# Altium footprint library sensors.PcbLib: 9 footprints
Each footprint in its own frame and in the unit in brackets; x right, y up, seen from the top. Pads: shape width x height; smd on the part's side, far side on the other; paste and mask are expansions set on the pad; w line width, h text height; cw(c..) or ccw(c..) is an arc to the next point about the centre after c.
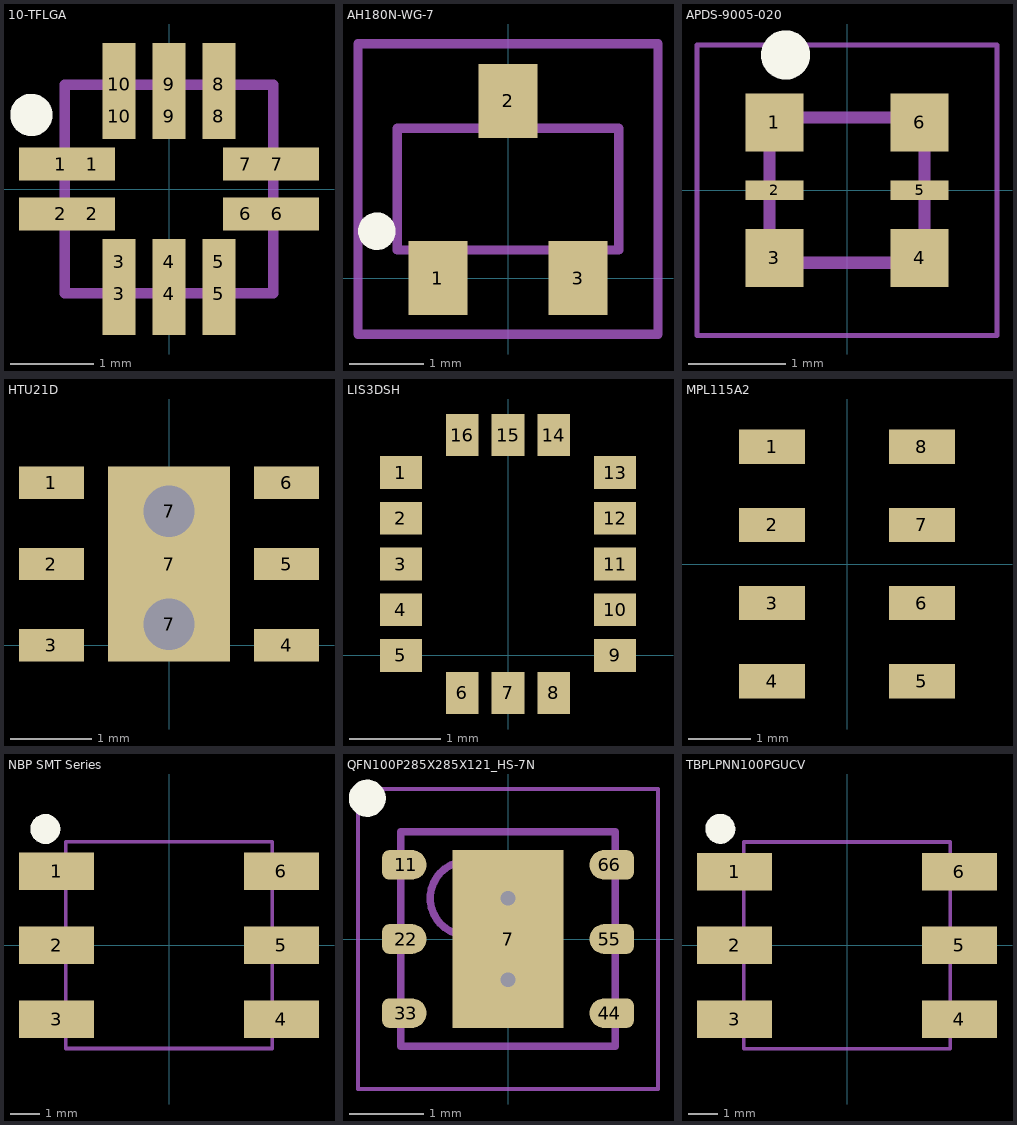
[diagram p0: the footprints below, top view; thin cyan lines are the x and y axes]

## 10-TFLGA [mm] "10 Pin Thin Fine Pitch Land Grid Array"
height 1
pads (20):
  rect 1x0.4 smd: 1(-1.3,0.3) 2(-1.3,-0.3) 6(1.3,-0.3) 7(1.3,0.3)
  rect 0.55x0.4 smd: 1(-0.92,0.3) 2(-0.92,-0.3) 6(0.92,-0.3) 7(0.92,0.3)
  rect 0.4x1 smd: 3(-0.6,-1.255) 4(0,-1.255) 5(0.6,-1.255) 8(0.6,1.255) 9(0,1.255) 10(-0.6,1.255)
  rect 0.4x0.55 smd: 3(-0.6,-0.875) 4(0,-0.875) 5(0.6,-0.875) 8(0.6,0.875) 9(0,0.875) 10(-0.6,0.875)
Top Overlay:
  circle w0.254: c-1.651,0.889 r0.127
Mechanical 1:
  lines w0.127: -1.25,-1.25 1.25,-1.25 1.25,1.25 -1.25,1.25 -1.25,-1.25

## AH180N-WG-7 [mm] "Hall Effect Sensor"
height 1.45
pads (3):
  rect 0.8x1 smd: 1(-0.95,0) 2(0,2.4) 3(0.95,0)
Top Overlay:
  circle w0.254: c-1.778,0.635 r0.127
Mechanical 1:
  lines w0.127: -1.5,0.381 -1.5,2.032 1.5,2.032 1.5,0.381 -1.5,0.381
Mechanical 15:
  lines w0.127: -2.032,-0.762 -2.032,3.175 2.032,3.175 2.032,-0.762 -2.032,-0.762
3D body: height 1.45, standoff 0, extent -1.5,0.381 1.5,2.032

## APDS-9005-020 [mm] "6 Pin Ambient Light Sensor"
height 0.55
pads (6):
  rect 0.6x0.6 smd: 1(-0.75,0.7) 3(-0.75,-0.7) 4(0.75,-0.7) 6(0.75,0.7)
  rect 0.6x0.2 smd: 2(-0.75,0) 5(0.75,0)
Top Overlay:
  circle w0.254: c-0.635,1.397 r0.127
Mechanical 1:
  lines w0.127: -0.8,-0.75 -0.8,0.75 0.8,0.75 0.8,-0.75 -0.8,-0.75
Mechanical 15:
  lines w0.051: -1.55,-1.5 1.55,-1.5 1.55,1.5 -1.55,1.5 -1.55,-1.5
3D body: height 0.55, standoff 0.18, extent -0.381,-0.635 0.381,0.254
3D body: height 0.18, standoff 0, extent -0.8,-0.75 0.8,0.75

## HTU21D [mm] "6 Pin DFN"
height 1.13
pads (9):
  rect 0.8x0.4 smd: 1(-1.45,2) 2(-1.45,1) 3(-1.45,0) 4(1.45,0) 5(1.45,1) 6(1.45,2)
  round 0.889 hole 0.635: 7(0,0.254) 7(0,1.651)
  rect 1.5x2.4 smd: 7(0,1)

## LIS3DSH [mm] "LGA-16 (3x3x1)"
height 1
pads (16):
  rect 0.46x0.36 smd: 1(-1.17,2) 2(-1.17,1.5) 3(-1.17,1) 4(-1.17,0.5) 5(-1.17,0) 9(1.17,0) 10(1.17,0.5) 11(1.17,1) 12(1.17,1.5) 13(1.17,2)
  rect 0.36x0.46 smd: 6(-0.5,-0.41) 7(0,-0.41) 8(0.5,-0.41) 14(0.5,2.41) 15(0,2.41) 16(-0.5,2.41)

## MPL115A2 [mm] "8-TLGA"
height 1.2
pads (8):
  rect 1.05x0.55 smd: 1(-1.2,1.875) 2(-1.2,0.625) 3(-1.2,-0.625) 4(-1.2,-1.875) 5(1.2,-1.875) 6(1.2,-0.625) 7(1.2,0.625) 8(1.2,1.875)

## NBP SMT Series [mm] "Pressure Sensor"
height 10.94
pads (6):
  rect 2.54x1.27 smd: 1(-3.81,2.5) 2(-3.81,0) 3(-3.81,-2.5) 4(3.81,-2.5) 5(3.81,0) 6(3.81,2.5)
Top Overlay:
  circle w0.508: c-4.191,3.937 r0.254
Mechanical 1:
  lines w0.127: -3.5,-3.5 -3.5,3.5 3.5,3.5 3.5,-3.5 -3.5,-3.5
3D body: height 1.02, standoff 0, extent -3.5,-3.5 3.5,3.5
3D body: height 3.84, standoff 1.02, extent -3.224,-3.244 3.25,3.244
3D body: height 10.94, standoff 3.84, extent -1.359,-1.367 1.37,1.367

## QFN100P285X285X121_HS-7N [mm] "QFN, 6-Leads, Body 2.85x2.85mm, Pitch 1.00mm, Thermal Pad 1.50x2.40mm, IPC Medium Density"
height 1.21
pads (13):
  rrect50% 0.5x0.4 smd: 1(-1.45,1) 2(-1.45,0) 3(-1.45,-1) 4(1.45,-1) 5(1.45,0) 6(1.45,1)
  round 0.4 smd: 1(-1.3,1) 2(-1.3,0) 3(-1.3,-1) 4(1.3,-1) 5(1.3,0) 6(1.3,1)
  rect 1.5x2.4 smd: 7(0,0)
via 0,0.55 diameter 0.5 hole 0.2
via 0,-0.55 diameter 0.5 hole 0.2
Top Overlay:
  circle w0.25: c-1.9,1.9 r0.125
Mechanical 13:
  circle w0.1: c-0.55,0.55 r0.5
  lines w0.1: -1.45,-1.45 -1.45,1.45 1.45,1.45 1.45,-1.45 -1.45,-1.45
Mechanical 15:
  lines w0.05: -2.025,-2.025 -2.025,2.025 2.025,2.025 2.025,-2.025 -2.025,-2.025
  lines w0.1: -0.5,0 0.5,0 ; 0,-0.5 0,0.5
3D body: height 1.21, standoff 0.02, extent -1.45,-1.45 1.45,1.45

## TBPLPNN100PGUCV [mm] "Low Profile Pressure Sensor"
height 3.84
pads (6):
  rect 2.54x1.27 smd: 1(-3.81,2.5) 2(-3.81,0) 3(-3.81,-2.5) 4(3.81,-2.5) 5(3.81,0) 6(3.81,2.5)
Top Overlay:
  lines w0.508: -4.064,4.064 ccw(c-4.291,3.95) -4.037,3.95
Mechanical 1:
  lines w0.127: -3.5,-3.5 3.5,-3.5 3.5,3.5 -3.5,3.5 -3.5,-3.5
3D body: height 1.02, standoff 0, extent -3.5,-3.5 3.5,3.5
3D body: height 4.86, standoff 1.02, extent -3.224,-3.244 3.25,3.244